# EAGLE library part 10150-5254PC (library UsefulConnectors)
CONN MDR PLUG 50POS R/A 4-40
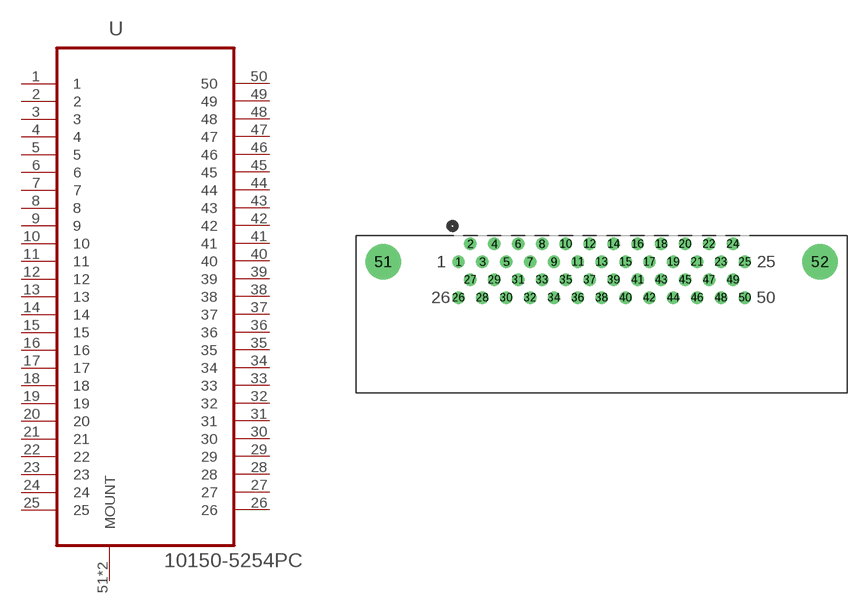
[diagram p4: symbol with the pads of 3M_10150-5242PC; footprint 3M_10150-5242PC]

Designator prefix -

## 10150-5254PC  [3M_10150-5242PC]
1  1  pas
2  2  pas
3  3  pas
4  4  pas
5  5  pas
6  6  pas
7  7  pas
8  8  pas
9  9  pas
10  10  pas
11  11  pas
12  12  pas
13  13  pas
14  14  pas
15  15  pas
16  16  pas
17  17  pas
18  18  pas
19  19  pas
20  20  pas
21  21  pas
22  22  pas
23  23  pas
24  24  pas
25  25  pas
26  26  pas
27  27  pas
28  28  pas
29  29  pas
30  30  pas
31  31  pas
32  32  pas
33  33  pas
34  34  pas
35  35  pas
36  36  pas
37  37  pas
38  38  pas
39  39  pas
40  40  pas
41  41  pas
42  42  pas
43  43  pas
44  44  pas
45  45  pas
46  46  pas
47  47  pas
48  48  pas
49  49  pas
50  50  pas
51  MOUNT
52  MOUNT

## Footprint 3M_10150-5242PC (pad centres in mm)
drill 0.813: 1 -15.24,6.35; 2 -13.97,8.255; 3 -12.7,6.35; 4 -11.43,8.255; 5 -10.16,6.35; 6 -8.89,8.255; 7 -7.62,6.35; 8 -6.35,8.255; 9 -5.08,6.35; 10 -3.81,8.255; 11 -2.54,6.35; 12 -1.27,8.255; 13 0,6.35; 14 1.27,8.255; 15 2.54,6.35; 16 3.81,8.255; 17 5.08,6.35; 18 6.35,8.255; 19 7.62,6.35; 20 8.89,8.255; 21 10.16,6.35; 22 11.43,8.255; 23 12.7,6.35; 24 13.97,8.255; 25 15.24,6.35; 26 -15.24,2.54; 27 -13.97,4.445; 28 -12.7,2.54; 29 -11.43,4.445; 30 -10.16,2.54; 31 -8.89,4.445; 32 -7.62,2.54; 33 -6.35,4.445; 34 -5.08,2.54; 35 -3.81,4.445; 36 -2.54,2.54; 37 -1.27,4.445; 38 0,2.54; 39 1.27,4.445; 40 2.54,2.54; 41 3.81,4.445; 42 5.08,2.54; 43 6.35,4.445; 44 7.62,2.54; 45 8.89,4.445; 46 10.16,2.54; 47 11.43,4.445; 48 12.7,2.54; 49 13.97,4.445; 50 15.24,2.54
drill 2.794: 51 -23.241,6.35; 52 23.241,6.35